# EAGLE library part LMR12010 (library lmrdcdc-0.1)
SIMPLE SWITCHER ® 20Vin, 1A Step-Down Voltage Regulator in SOT-23
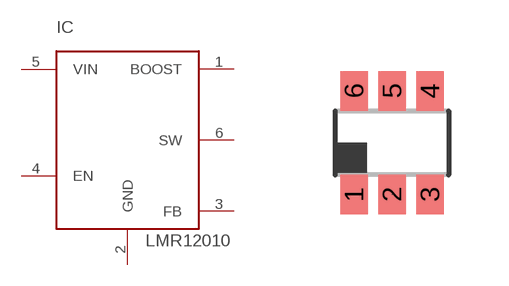
[diagram p4: symbol with the pads of SOT23-6; footprint SOT23-6]

Designator prefix IC

## LMR12010  [SOT23-6]
1  BOOST
2  GND  pwr
3  FB
4  EN
5  VIN  pwr
6  SW

## Footprint SOT23-6 (pad centres in mm)
smd 0.69 x 0.99: 1 -0.95,-1.29; 2 0,-1.29; 3 0.95,-1.29; 4 0.95,1.3; 5 0,1.3; 6 -0.95,1.3